# Altium footprint library ucus_kayit.PcbLib: 9 footprints
Each footprint in its own frame and in the unit in brackets; x right, y up, seen from the top. Pads: shape width x height; smd on the part's side, far side on the other; paste and mask are expansions set on the pad; w line width, h text height; cw(c..) or ccw(c..) is an arc to the next point about the centre after c.
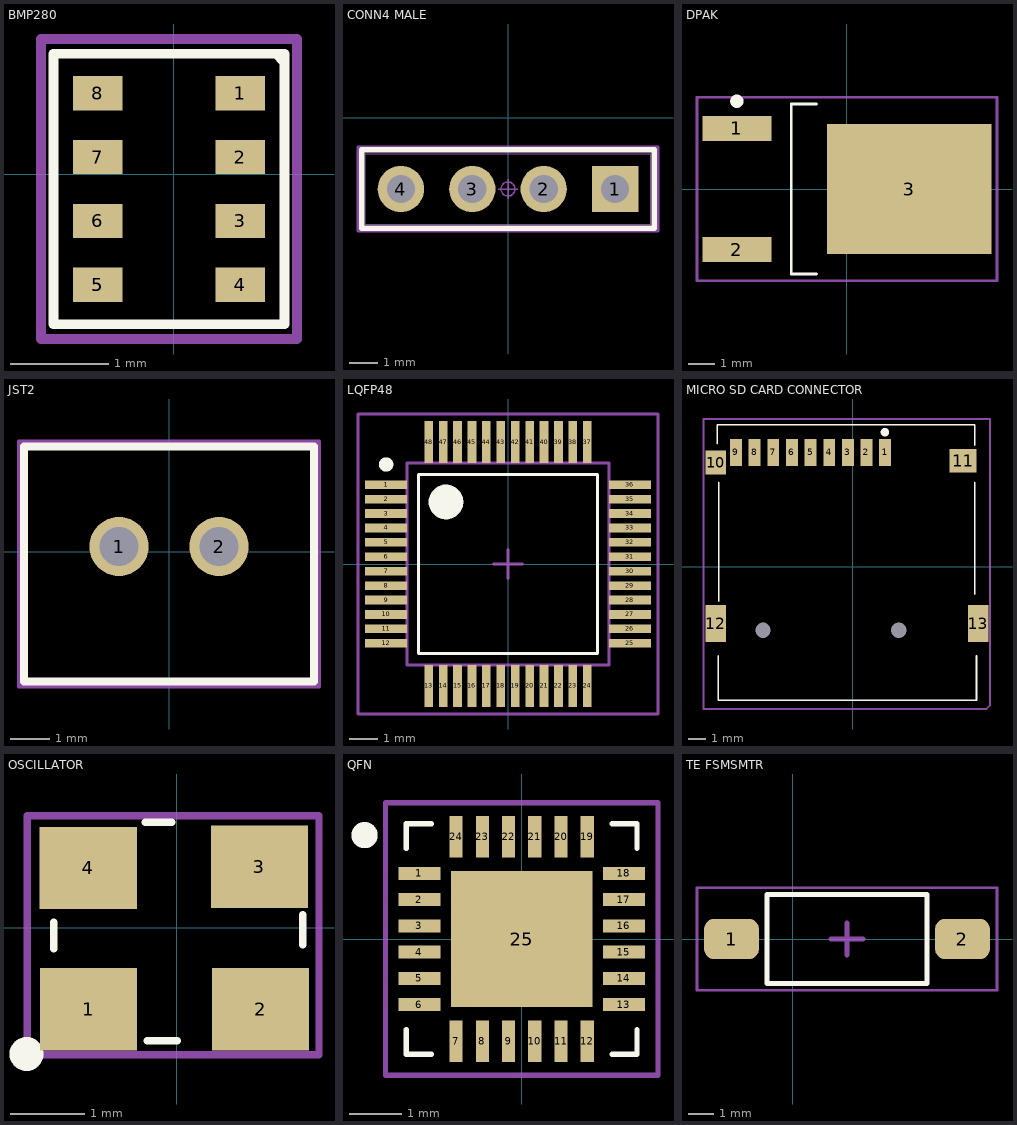
[diagram p0: the footprints below, top view; thin cyan lines are the x and y axes]

## BMP280 [mm]
pads (9):
  rect 0.5x0.35 smd: 1(0.675,0.825) 2(0.675,0.175) 3(0.675,-0.475) 4(0.675,-1.125) 5(-0.775,-1.125) 5(-0.775,-1.125) 6(-0.775,-0.475) 7(-0.775,0.175) 8(-0.775,0.825)
Top Overlay:
  region: 1.125,1.225 0.995,1.225 0.984,1.214 1.107,1.09 1.122,1.09
  region: 1.123,1.157 1.123,1.223 1.125,1.225
  lines w0.1: -1.225,-1.525 -1.225,1.225 1.125,1.225 1.125,-1.525 0.537,-1.525 -0.637,-1.525 -1.225,-1.525
Mechanical 15:
  lines w0.1: -1.35,-1.675 1.25,-1.675 1.25,1.375 -1.35,1.375 -1.35,-1.675
3D body "BMP280.step": height 0.95, standoff -0.01, extent -1.05,-1.4 0.95,1.1

## CONN4 MALE [mm] "4 PIN 2.54MM"
pads (4):
  rect 1.65x1.65 hole 1 mask+0: 1(3.81,-2.54)
  round 1.65 hole 1 mask+0: 2(1.27,-2.54) 3(-1.27,-2.54) 4(-3.81,-2.54)
Top Overlay:
  lines w0.2: -5.207,-3.937 -5.207,-1.143 5.207,-1.143 5.207,-3.937 -5.207,-3.937
Mechanical 13:
  lines w0.025: -5.08,-3.79 -5.08,-1.29 5.08,-1.29 5.08,-3.79 -5.08,-3.79
Mechanical 15:
  circle w0.05: c0,-2.54 r0.25
  lines w0.05: -0.35,-2.54 0.35,-2.54 ; 0,-2.89 0,-2.19
  lines w0.1: -5.334,-4.039 -5.334,-1.041 5.334,-1.041 5.334,-4.039 -5.334,-4.039
3D body "4-Pin Header - Male - 2.54mm.step": height 8.89, standoff -3.05, extent -5.126,-3.828 5.034,-1.288

## DPAK [mm] "D-PAK, 3-Pads, Body 6,20x6,56mm (max), IPC Medium Density"
height 2.4
pads (3):
  rect 2.6x0.95 smd mask+0.05: 1(-4.15,2.28) 2(-4.15,-2.28)
  rect 6.2x4.9 smd mask+0.05: 3(2.35,0)
Top Overlay:
  circle w0.25: c-4.15,3.305 r0.125
  lines w0.1: -1.15,-3.2 -2.1,-3.2 -2.1,3.2 -1.15,3.2
Mechanical 15:
  lines w0.1: -0.5,0 0.5,0 ; 0,-0.5 0,0.5 ; -5.65,-3.45 5.65,-3.45 5.65,3.45 -5.65,3.45 -5.65,-3.45
3D body "DPAK.step": height 3.4, standoff 0, extent -4.275,-3.2 5.45,3.2

## JST2 [mm] "2 PIN 2.54MM"
pads (2):
  round 1.5 hole 1 mask+0.102: 1(-1.27,0.127) 2(1.27,0.127)
Top Overlay:
  lines w0.2: -3.683,-3.302 -3.683,2.667 3.683,2.667 3.683,-3.302 -3.683,-3.302
Mechanical 15:
  lines w0.1: -3.81,-3.429 -3.81,2.794 3.81,2.794 3.81,-3.429 -3.81,-3.429
3D body "JST - XH - Thru (V) - 2Pin - 2.54mm.stp": height 7.21, standoff -3, extent -3.607,-3.226 3.607,2.616

## LQFP48 [mm] "TSQFP, 48-Leads, Body 7,00x7,00mm, Pitch 0,50mm, IPC Medium Density"
height 1.6
pads (48):
  rect 1.45x0.3 smd mask+0.05: 1(-4.225,2.75) 2(-4.225,2.25) 3(-4.225,1.75) 4(-4.225,1.25) 5(-4.225,0.75) 6(-4.225,0.25) 7(-4.225,-0.25) 8(-4.225,-0.75) 9(-4.225,-1.25) 10(-4.225,-1.75) 11(-4.225,-2.25) 12(-4.225,-2.75) 25(4.225,-2.75) 26(4.225,-2.25) 27(4.225,-1.75) 28(4.225,-1.25) 29(4.225,-0.75) 30(4.225,-0.25) 31(4.225,0.25) 32(4.225,0.75) 33(4.225,1.25) 34(4.225,1.75) 35(4.225,2.25) 36(4.225,2.75)
  rect 0.3x1.45 smd mask+0.05: 13(-2.75,-4.225) 14(-2.25,-4.225) 15(-1.75,-4.225) 16(-1.25,-4.225) 17(-0.75,-4.225) 18(-0.25,-4.225) 19(0.25,-4.225) 20(0.75,-4.225) 21(1.25,-4.225) 22(1.75,-4.225) 23(2.25,-4.225) 24(2.75,-4.225) 37(2.75,4.225) 38(2.25,4.225) 39(1.75,4.225) 40(1.25,4.225) 41(0.75,4.225) 42(0.25,4.225) 43(-0.25,4.225) 44(-0.75,4.225) 45(-1.25,4.225) 46(-1.75,4.225) 47(-2.25,4.225) 48(-2.75,4.225)
Top Overlay:
  circle w0.6: c-2.15,2.15 r0.3
  circle w0.25: c-4.225,3.45 r0.125
  lines w0.1: -3.1,-3.1 3.1,-3.1 3.1,3.1 -3.1,3.1 -3.1,-3.1
Mechanical 13:
  circle w0.1: c-2.127,2.172 r0.5
  lines w0.1: -3.5,-3.5 3.5,-3.5 3.5,3.5 -3.5,3.5 -3.5,-3.5
Mechanical 15:
  lines w0.1: -0.5,0 0.5,0 ; 0,-0.5 0,0.5 ; -5.2,-5.2 5.2,-5.2 5.2,5.2 -5.2,5.2 -5.2,-5.2
3D body "LQFP48.step": height 1.6, standoff 0, extent -4.5,-4.5 4.5,4.5

## MICRO SD CARD CONNECTOR [mm]
pads (15):
  rect 0.7x1.6 smd paste+0 mask+0: 1(1.918,6.735) 2(0.818,6.735) 3(-0.282,6.735) 4(-1.382,6.735) 5(-2.482,6.735) 6(-3.582,6.735) 7(-4.682,6.735) 8(-5.782,6.735) 9(-6.882,6.735)
  rect 1.2x1.4 smd paste+0 mask+0: 10(-8.082,6.135)
  rect 1.6x1.4 smd paste+0 mask+0: 11(6.518,6.235)
  rect 1.2x2.2 smd paste+0 mask+0: 12(-8.082,-3.365) 13(7.418,-3.365)
  round 0 hole 0.9 unplated paste-1000 mask+0: ""(-5.282,-3.765) ""(2.718,-3.765)
Top Overlay:
  circle w0.25: c1.905,7.925 r0.125
  lines w0.1: -7.991,7.259 -7.991,8.359 7.209,8.359 7.209,7.159 ; -7.923,-5.265 -7.923,-7.888 7.309,-7.888 7.309,-5.265 ; -7.891,-2.041 -7.891,4.959 ; 7.209,-1.641 7.209,4.959
Mechanical 15:
  lines w0.1: -8.8,-8.4 -8.8,8.7 8.1,8.7 8.1,-8.2 7.9,-8.4 -8.8,-8.4
3D body "User Library-MEM2055-00-190-01-A_revG.step": height 1.85, standoff -0.6, extent -8.333,-7.76 7.667,7.49

## OSCILLATOR [mm] "8MHZ 12.5pF"
pads (4):
  rect 1.3x1.1 smd mask+0.05: 1(-1.181,-1.09) 2(1.119,-1.09) 3(1.103,0.817) 4(-1.186,0.801)
Top Overlay:
  circle w0.254: c-2.012,-1.689 r0.1
  lines w0.1: -1.645,-0.282 -1.645,0.072 ; -0.424,1.41 -0.07,1.41 ; -0.399,-1.511 0.001,-1.511 ; 1.684,-0.224 1.684,0.176
Mechanical 3:
  circle w0.254: c-1.416,-1.124 r0.1
Mechanical 15:
  lines w0.1: -2,-1.8 -1.9,-1.7 1.9,-1.7 1.9,1.5 -2,1.5 -2,-1.8
3D body "ASE3.STEP": height 1.22, standoff -0.03, extent -1.6,-1.377 1.6,1.123

## QFN [mm] "QFN, 24-Leads, Body 4,00x4,00mm, Pitch 0,50mm, Thermal Pad 2,70x2,60mm, IPC Medium Density"
height 0.95
pads (25):
  rect 0.8x0.25 smd mask+0.05: 1(-1.95,1.25) 2(-1.95,0.75) 3(-1.95,0.25) 4(-1.95,-0.25) 5(-1.95,-0.75) 6(-1.95,-1.25) 13(1.95,-1.25) 14(1.95,-0.75) 15(1.95,-0.25) 16(1.95,0.25) 17(1.95,0.75) 18(1.95,1.25)
  rect 0.25x0.8 smd mask+0.05: 7(-1.25,-1.95) 8(-0.75,-1.95) 9(-0.25,-1.95) 10(0.25,-1.95) 11(0.75,-1.95) 12(1.25,-1.95) 19(1.25,1.95) 20(0.75,1.95) 21(0.25,1.95) 22(-0.25,1.95) 23(-0.75,1.95) 24(-1.25,1.95)
  rect 2.7x2.6 smd mask+0.05: 25(0,0)
Top Overlay:
  circle w0.25: c-2.997,1.981 r0.125
  lines w0.1: -2.2,-1.725 -2.2,-2.2 -1.725,-2.2 ; -2.2,1.725 -2.2,2.2 -1.725,2.2 ; 1.725,-2.2 2.2,-2.2 2.2,-1.725 ; 1.725,2.2 2.2,2.2 2.2,1.725
Mechanical 15:
  lines w0.1: -0.5,0 0.5,0 ; 0,-0.5 0,0.5 ; -2.6,-2.6 2.6,-2.6 2.6,2.6 -2.6,2.6 -2.6,-2.6
3D body "QFN.step": height 0.95, standoff 0, extent -2.07,-2.07 2.07,2.07

## TE FSMSMTR [mm]
height 4.42
pads (2):
  rrect50% 2.19x1.6 smd: 1(-2.436,0) 2(6.754,0)
Top Overlay:
  lines w0.2: -1.016,-1.778 -1.016,1.778 5.334,1.778 5.334,-1.778 -1.016,-1.778
Mechanical 15:
  lines w0.1: -3.81,-2.032 -3.81,2.032 8.128,2.032 8.128,-2.032 -3.81,-2.032
  lines w0.2: 1.524,0 2.794,0 ; 2.159,-0.635 2.159,0.635
3D body "FSMSMTR.STEP": height 4.42, standoff 0, extent -2.826,-1.75 7.143,1.75